# Altium footprint library Solder Jumper - 2 PIN NO.PcbLib: 1 footprints
Each footprint in its own frame and in the unit in brackets; x right, y up, seen from the top. Pads: shape width x height; smd on the part's side, far side on the other; paste and mask are expansions set on the pad; w line width, h text height; cw(c..) or ccw(c..) is an arc to the next point about the centre after c.
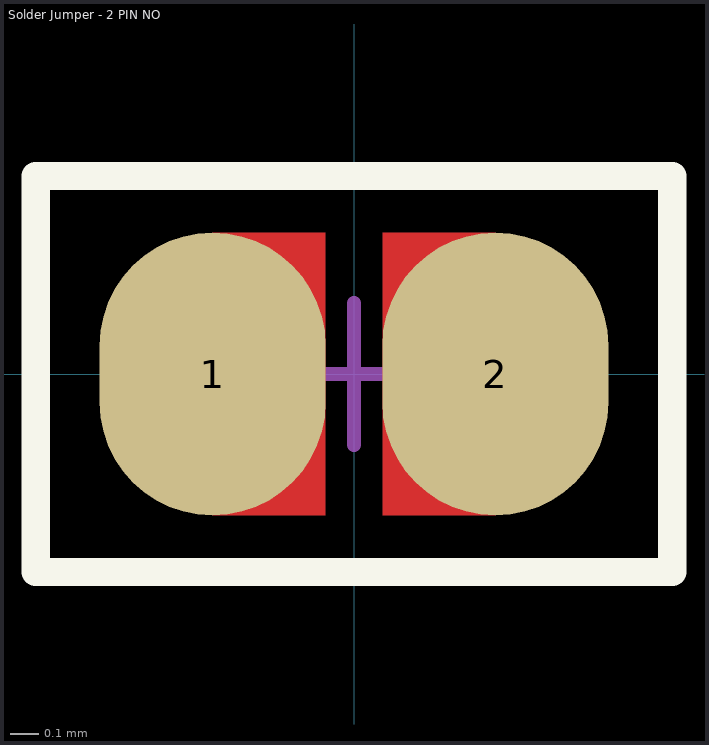
[diagram p0: the footprint, top view; thin cyan lines are the x and y axes]

## Solder Jumper - 2 PIN NO [mm] "Solder jumper 2 pin"
pads (2):
  oval 0.8x1 smd: 1(-0.5,0) 2(0.5,0)
Top Layer:
  region: 0.5,0.5 0.1,0.5 0.1,-0.5 0.5,-0.5
  rectangle: -0.5,-0.5 -0.1,0.5
Top Overlay:
  lines w0.1: -1.125,-0.7 -1.125,0.7 1.125,0.7 1.125,-0.7 -1.125,-0.7
Mechanical 15:
  lines w0.05: -0.225,0 0.025,0 ; -0.025,0 0.225,0 ; 0,-0.25 0,0 0,0.25 ; -1.125,-0.7 -1.125,0.7 1.125,0.7 1.125,-0.7 -1.125,-0.7